# Altium footprint library TO.PcbLib: 37 footprints (part 2 of 3)
Each footprint in its own frame and in the unit in brackets; x right, y up, seen from the top. Pads: shape width x height; smd on the part's side, far side on the other; paste and mask are expansions set on the pad; w line width, h text height; cw(c..) or ccw(c..) is an arc to the next point about the centre after c.
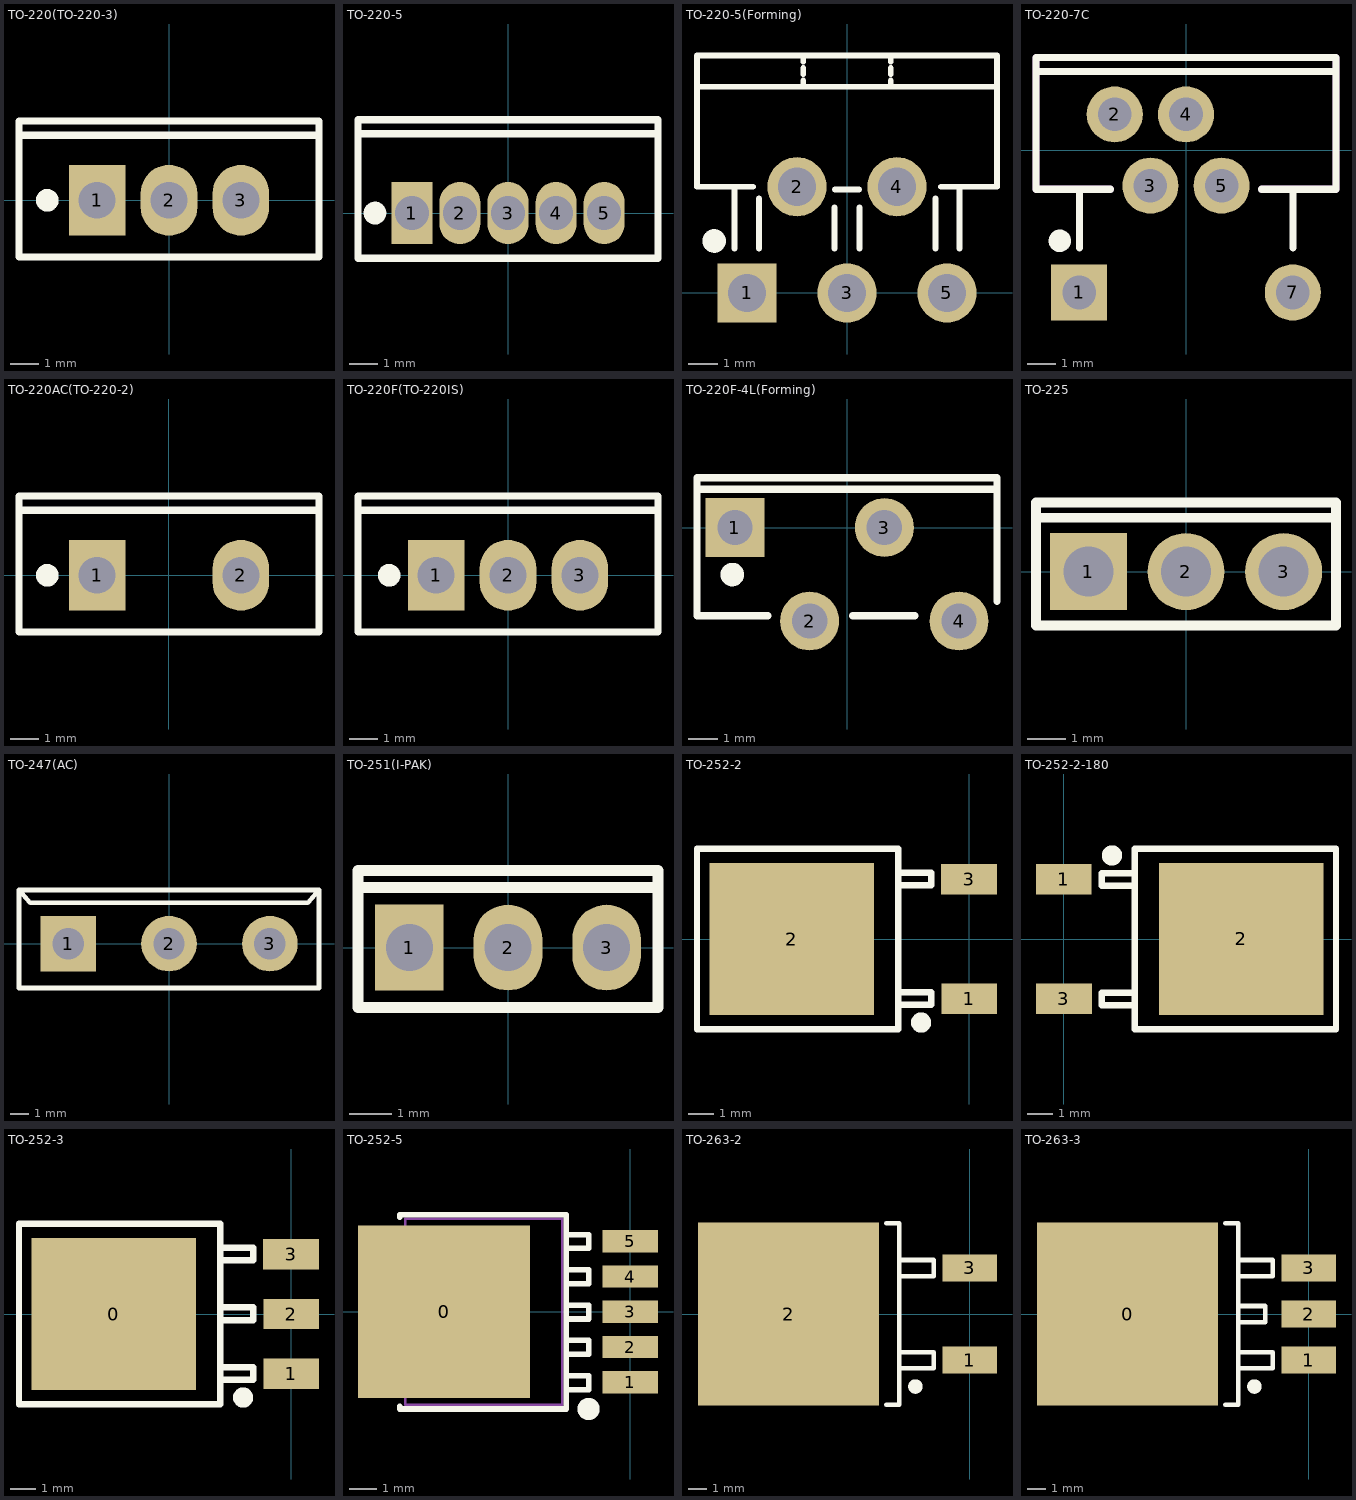
[diagram p1: the footprints below, top view; thin cyan lines are the x and y axes]

## TO-220(TO-220-3) [mm]
pads (3):
  rect 2x2.5 hole 1.3: 1(-2.54,0)
  oval 2x2.5 hole 1.3: 2(0,0) 3(2.54,0)
Top Overlay:
  circle w0.4: c-4.3,0 r0.2
  lines w0.254: -5.3,2.3 5.3,2.3 ; -5.3,-2 5.3,-2 5.3,2.8 -5.3,2.8 -5.3,-2
3D body "TO-220-3.STEP": height 19.6, standoff -8.87, extent -5.08,-1.451 5.08,2.9

## TO-220-5 [mm]
pads (5):
  rect 1.45x2.2 hole 1.2 mask+0.051: 1(-3.4,0)
  oval 1.45x2.2 hole 1.2 mask+0.051: 2(-1.7,0) 3(0,0) 4(1.7,0) 5(3.4,0)
Top Overlay:
  circle w0.4: c-4.7,0 r0.2
  lines w0.254: -5.2,2.8 5.3,2.8 ; -5.3,-1.6 -5.3,3.3 5.3,3.3 5.3,-1.6 -5.3,-1.6

## TO-220-5(Forming) [mm]
pads (5):
  rect 2x2 hole 1.3: 1(-3.387,0)
  round 2 hole 1.3: 2(-1.693,3.598) 3(0,0) 4(1.693,3.598) 5(3.387,0)
Top Overlay:
  circle w0.4: c-4.5,1.761 r0.2
  lines w0.2: -5.08,6.985 5.08,6.985 ; -3.81,1.5 -3.81,3.598 ; -3.187,3.598 -5.08,3.598 -5.08,8.043 5.08,8.043 5.08,3.598 3.187,3.598 ; -2.987,1.5 -2.987,3.2 ; -1.482,6.985 -1.482,7.197 ; -1.482,7.408 -1.482,7.62 ; -1.482,7.832 -1.482,8.043 ; -0.423,1.5 -0.423,2.9 ; 0.423,1.5 0.423,2.9 ; 1.482,6.985 1.482,7.197 ; 1.482,7.408 1.482,7.62 ; 1.482,7.832 1.482,8.043 ; 2.994,1.5 2.994,3.2 ; 3.81,1.5 3.81,3.598
  lines w0.203: -0.4,3.5 0.4,3.5

## TO-220-7C [mm]
pads (6):
  rect 2x2 hole 1.2: 1(-3.81,-5.08)
  round 2 hole 1.2: 2(-2.54,1.27) 3(-1.27,-1.27) 4(0,1.27) 5(1.27,-1.27) 7(3.81,-5.08)
Top Overlay:
  circle w0.4: c-4.5,-3.239 r0.2
  lines w0.254: -3.8,-3.5 -3.8,-1.4 ; -2.7,-1.4 -5.35,-1.4 -5.35,3.3 ; 2.7,-1.4 5.35,-1.4 5.35,3.3 ; 3.82,-3.5 3.82,-1.4 ; -5.35,2.8 -5.35,3.3 ; -5.35,2.8 5.35,2.8 ; -5.35,2.8 -5.35,3.3 ; -5.35,3.3 5.35,3.3 ; 5.35,2.8 5.35,3.3 ; 5.35,2.8 5.35,3.3
Mechanical 13:
  lines w0.254: -2.7,-1.4 -5.35,-1.4 -5.35,3.3 5.35,3.3 5.35,-1.4 2.7,-1.4

## TO-220AC(TO-220-2) [mm]
pads (2):
  rect 2x2.5 hole 1.3: 1(-2.54,0)
  oval 2x2.5 hole 1.3: 2(2.54,0)
Top Overlay:
  circle w0.4: c-4.3,0 r0.2
  lines w0.254: -5.3,2.3 5.3,2.3 ; -5.3,-2 5.3,-2 5.3,2.8 -5.3,2.8 -5.3,-2
3D body "TO-220AC.STEP": height 19.3, standoff -9.08, extent -4.766,-2.3 4.886,2.2

## TO-220F(TO-220IS) [mm] "=TO-220FP, Full-pak Package"
pads (3):
  rect 2x2.5 hole 1.3: 1(-2.54,0)
  oval 2x2.5 hole 1.3: 2(0,0) 3(2.54,0)
Top Overlay:
  circle w0.4: c-4.2,0 r0.2
  lines w0.254: -5.3,2.3 5.3,2.3 ; -5.3,-2 5.3,-2 5.3,2.8 -5.3,2.8 -5.3,-2
3D body "User Library-Transistors TO-220F-3FS.STEP": height 19.37, standoff -9.48, extent -5.07,-1.8 5.07,2.9

## TO-220F-4L(Forming) [mm]
pads (4):
  rect 2x2 hole 1.2: 1(-3.81,0)
  round 2 hole 1.2: 2(-1.27,-3.18) 3(1.27,0) 4(3.81,-3.18)
Top Overlay:
  circle w0.4: c-3.9,-1.6 r0.2
  lines w0.254: -5.1,1.3 5.1,1.3 ; -2.7,-3 -5.1,-3 -5.1,1.7 5.1,1.7 5.1,-2.5 ; 0.2,-3 2.3,-3

## TO-225 [mm]
pads (3):
  rect 2x2 hole 1.3: 1(-2.54,0)
  round 2 hole 1.3: 2(0,0) 3(2.54,0)
Top Overlay:
  lines w0.254: -3.9,1.4 3.9,1.4 ; -3.9,-1.4 -3.9,1.8 3.9,1.8 3.9,-1.4 -3.9,-1.4

## TO-247(AC) [mm]
pads (3):
  rect 3x3 hole 1.7: 1(-5.45,0)
  round 3 hole 1.7: 2(0,0) 3(5.45,0)
Top Overlay:
  lines w0.254: -8.1,2.9 8.1,2.9 ; -8.1,2.9 -8.1,-2.4 8.1,-2.4 8.1,2.9 ; -8.1,2.9 -7.5,2.2 7.5,2.2 8.1,2.9
3D body "User Library-TO-247 CASE 340L-02 Vertical.STEP": height 26.35, standoff -15.05, extent -8,-2.2 8,2.8

## TO-251(I-PAK) [mm]
pads (3):
  rect 1.6x2 hole 1.1: 1(-2.3,0)
  oval 1.6x2 hole 1.1: 2(0,0) 3(2.3,0)
Top Overlay:
  lines w0.254: -3.5,1.4 -3.5,1.8 3.5,1.8 3.5,1.4 ; -3.5,1.4 -3.5,-1.4 3.5,-1.4 3.5,1.4 ; -3.5,1.4 3.5,1.4
3D body "User Library-TO-251AA(IPak).STEP": height 9.46, standoff -3.92, extent -3.3,-0.9 3.3,1.4

## TO-252-2 [mm]
pads (3):
  rect 2.2x1.2 smd: 1(0,-2.361) 3(-0.004,2.361)
  rect 6.5x6 smd: 2(-7,0)
Top Overlay:
  circle w0.4: c-1.9,-3.3 r0.2
  lines w0.254: -2.804,2.123 -1.504,2.123 -1.504,2.623 -2.804,2.623 ; -2.8,-2.6 -1.5,-2.6 -1.5,-2.1 -2.8,-2.1 ; -10.75,-3.573 -2.8,-3.573 -2.8,3.573 -10.75,3.573 -10.75,-3.573
3D body "TO-252.STEP": height 2.44, standoff 0.03, extent -9.738,-3.27 0.2,3.27

## TO-252-2-180 [mm] "180度编带包装"
pads (3):
  rect 2.2x1.2 smd: 1(0,2.361) 3(0.004,-2.361)
  rect 6.5x6 smd: 2(7,0)
Top Overlay:
  circle w0.4: c1.9,3.3 r0.2
  lines w0.254: 2.8,2.1 1.5,2.1 1.5,2.6 2.8,2.6 ; 2.804,-2.623 1.504,-2.623 1.504,-2.123 2.804,-2.123 ; 2.8,-3.573 2.8,3.573 10.75,3.573 10.75,-3.573 2.8,-3.573
3D body "TO-252.STEP": height 2.44, standoff 0.03, extent -0.2,-3.27 9.738,3.27

## TO-252-3 [mm]
pads (4):
  rect 6.5x6 smd: 0(-7,0)
  rect 2.2x1.2 smd: 1(0,-2.361) 2(0,0) 3(-0.004,2.361)
Top Overlay:
  circle w0.4: c-1.9,-3.3 r0.2
  lines w0.254: -2.804,2.123 -1.504,2.123 -1.504,2.623 -2.804,2.623 ; -2.8,-2.6 -1.5,-2.6 -1.5,-2.1 -2.8,-2.1 ; -2.8,-0.239 -1.5,-0.239 -1.5,0.261 -2.8,0.261 ; -10.75,-3.573 -2.8,-3.573 -2.8,3.573 -10.75,3.573 -10.75,-3.573

## TO-252-5 [mm]
pads (6):
  rect 6.2x6.2 smd: 0(-6.7,0)
  rect 2x0.8 smd: 1(0,-2.54) 2(0,-1.27) 3(0,0) 4(0,1.27) 5(0,2.54)
Top Overlay:
  circle w0.4: c-1.5,-3.5 r0.2
  lines w0.2: -8.3,-3.4 -8.3,-3.5 -2.3,-3.5 -2.3,3.5 -8.3,3.5 -8.3,3.4 ; -2.2,-2.8 -1.5,-2.8 -1.5,-2.3 -2.2,-2.3 ; -2.2,-1.53 -1.5,-1.53 -1.5,-1.03 -2.2,-1.03 ; -2.2,-0.26 -1.5,-0.26 -1.5,0.24 -2.2,0.24 ; -2.2,1.01 -1.5,1.01 -1.5,1.51 -2.2,1.51 ; -2.2,2.28 -1.5,2.28 -1.5,2.78 -2.2,2.78
Mechanical 13:
  lines w0.1: -8.1,-3.35 -2.45,-3.35 -2.45,3.35 -8.1,3.35 -8.1,-3.35

## TO-263-2 [mm]
pads (3):
  rect 3x1.5 smd: 1(0,-2.54) 3(0,2.54)
  rect 10x10.1 smd: 2(-10,0)
Top Overlay:
  circle w0.4: c-3,-4 r0.2
  lines w0.254: -4.6,-5 -3.9,-5 -3.9,5 -4.6,5 ; -3.9,-3 -2,-3 -2,-2.1 -3.9,-2.1 ; -3.9,2.08 -2,2.08 -2,2.98 -3.9,2.98
3D body "DPAK3P508_1524X483L228X114T686X1067.STEP": height 4.83, standoff 0, extent -14.123,-5.335 1.122,5.335

## TO-263-3 [mm]
pads (4):
  rect 10x10.1 smd: 0(-10,0)
  rect 3x1.5 smd: 1(0,-2.54) 2(0,0) 3(0,2.54)
Top Overlay:
  circle w0.4: c-3,-4 r0.2
  lines w0.254: -4.6,-5 -3.9,-5 -3.9,5 -4.6,5 ; -3.9,-3 -2,-3 -2,-2.1 -3.9,-2.1 ; -3.9,-0.46 -2.4,-0.46 -2.4,0.44 -3.9,0.44 ; -3.9,2.08 -2,2.08 -2,2.98 -3.9,2.98
3D body "DDPARK-TO-263-3.STEP": height 4.87, standoff 0, extent -13.73,-5.08 0.5,5.08